# Altium footprint library alexsb.PCBLIB: 444 footprints (part 7 of 28)
Each footprint in its own frame and in the unit in brackets; x right, y up, seen from the top. Pads: shape width x height; smd on the part's side, far side on the other; paste and mask are expansions set on the pad; w line width, h text height; cw(c..) or ccw(c..) is an arc to the next point about the centre after c.
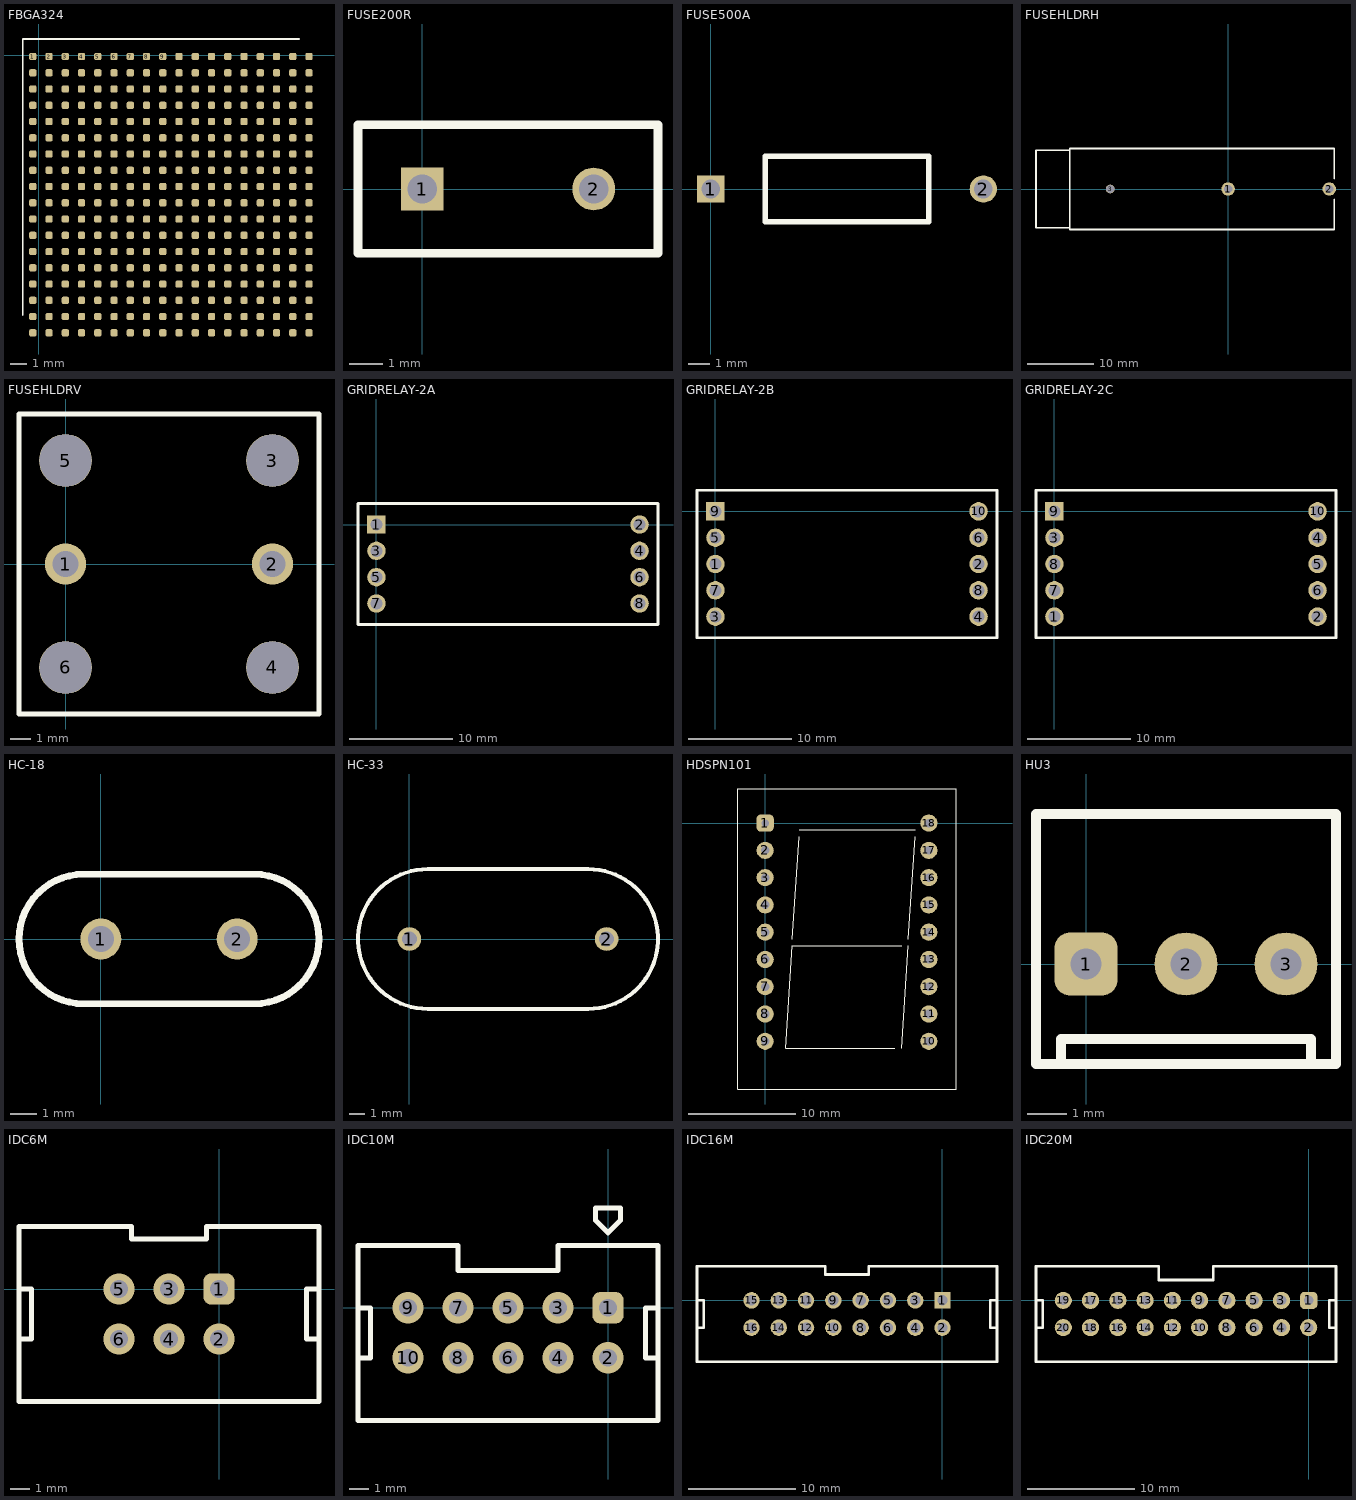
[diagram p6: the footprints below, top view; thin cyan lines are the x and y axes]

## FBGA324 [mm]
pads (324):
  rrect50% 0.45x0.45 smd: 1(-0.38,-0.08) 2(0.62,-0.08) 3(1.62,-0.08) 4(2.62,-0.08) 5(3.62,-0.08) 6(4.62,-0.08) 7(5.62,-0.08) 8(6.62,-0.08) 9(7.62,-0.08) 10(8.62,-0.08) 11(9.62,-0.08) 12(10.62,-0.08) 13(11.62,-0.08) 14(12.62,-0.08) 15(13.62,-0.08) 16(14.62,-0.08) 17(15.62,-0.08) 18(16.62,-0.08) 19(-0.38,-1.08) 20(0.62,-1.08) 21(1.62,-1.08) 22(2.62,-1.08) 23(3.62,-1.08) 24(4.62,-1.08) 25(5.62,-1.08) 26(6.62,-1.08) 27(7.62,-1.08) 28(8.62,-1.08) 29(9.62,-1.08) 30(10.62,-1.08) 31(11.62,-1.08) 32(12.62,-1.08) 33(13.62,-1.08) 34(14.62,-1.08) 35(15.62,-1.08) 36(16.62,-1.08) 37(-0.38,-2.08) 38(0.62,-2.08) 39(1.62,-2.08) 40(2.62,-2.08) 41(3.62,-2.08) 42(4.62,-2.08) 43(5.62,-2.08) 44(6.62,-2.08) 45(7.62,-2.08) 46(8.62,-2.08) 47(9.62,-2.08) 48(10.62,-2.08) 49(11.62,-2.08) 50(12.62,-2.08) 51(13.62,-2.08) 52(14.62,-2.08) 53(15.62,-2.08) 54(16.62,-2.08) 55(-0.38,-3.08) 56(0.62,-3.08) 57(1.62,-3.08) 58(2.62,-3.08) 59(3.62,-3.08) 60(4.62,-3.08) 61(5.62,-3.08) 62(6.62,-3.08) 63(7.62,-3.08) 64(8.62,-3.08) 65(9.62,-3.08) 66(10.62,-3.08) 67(11.62,-3.08) 68(12.62,-3.08) 69(13.62,-3.08) 70(14.62,-3.08) 71(15.62,-3.08) 72(16.62,-3.08) 73(-0.38,-4.08) 74(0.62,-4.08) 75(1.62,-4.08) 76(2.62,-4.08) 77(3.62,-4.08) 78(4.62,-4.08) 79(5.62,-4.08) 80(6.62,-4.08) 81(7.62,-4.08) 82(8.62,-4.08) 83(9.62,-4.08) 84(10.62,-4.08) 85(11.62,-4.08) 86(12.62,-4.08) 87(13.62,-4.08) 88(14.62,-4.08) 89(15.62,-4.08) 90(16.62,-4.08) 91(-0.38,-5.08) 92(0.62,-5.08) 93(1.62,-5.08) 94(2.62,-5.08) 95(3.62,-5.08) 96(4.62,-5.08) 97(5.62,-5.08) 98(6.62,-5.08) 99(7.62,-5.08) 100(8.62,-5.08) 101(9.62,-5.08) 102(10.62,-5.08) 103(11.62,-5.08) 104(12.62,-5.08) 105(13.62,-5.08) 106(14.62,-5.08) 107(15.62,-5.08) 108(16.62,-5.08) 109(-0.38,-6.08) 110(0.62,-6.08) 111(1.62,-6.08) 112(2.62,-6.08) 113(3.62,-6.08) 114(4.62,-6.08) 115(5.62,-6.08) 116(6.62,-6.08) 117(7.62,-6.08) 118(8.62,-6.08) 119(9.62,-6.08) 120(10.62,-6.08) 121(11.62,-6.08) 122(12.62,-6.08) 123(13.62,-6.08) 124(14.62,-6.08) 125(15.62,-6.08) 126(16.62,-6.08) 127(-0.38,-7.08) 128(0.62,-7.08) 129(1.62,-7.08) 130(2.62,-7.08) 131(3.62,-7.08) 132(4.62,-7.08) 133(5.62,-7.08) 134(6.62,-7.08) 135(7.62,-7.08) 136(8.62,-7.08) 137(9.62,-7.08) 138(10.62,-7.08) 139(11.62,-7.08) 140(12.62,-7.08) 141(13.62,-7.08) 142(14.62,-7.08) 143(15.62,-7.08) 144(16.62,-7.08) 145(-0.38,-8.08) 146(0.62,-8.08) 147(1.62,-8.08) 148(2.62,-8.08) 149(3.62,-8.08) 150(4.62,-8.08) 151(5.62,-8.08) 152(6.62,-8.08) 153(7.62,-8.08) 154(8.62,-8.08) 155(9.62,-8.08) 156(10.62,-8.08) 157(11.62,-8.08) 158(12.62,-8.08) 159(13.62,-8.08) 160(14.62,-8.08) 161(15.62,-8.08) 162(16.62,-8.08) 163(-0.38,-9.08) 164(0.62,-9.08) 165(1.62,-9.08) 166(2.62,-9.08) 167(3.62,-9.08) 168(4.62,-9.08) 169(5.62,-9.08) 170(6.62,-9.08) 171(7.62,-9.08) 172(8.62,-9.08) 173(9.62,-9.08) 174(10.62,-9.08) 175(11.62,-9.08) 176(12.62,-9.08) 177(13.62,-9.08) 178(14.62,-9.08) 179(15.62,-9.08) 180(16.62,-9.08) 181(-0.38,-10.08) 182(0.62,-10.08) 183(1.62,-10.08) 184(2.62,-10.08) 185(3.62,-10.08) 186(4.62,-10.08) 187(5.62,-10.08) 188(6.62,-10.08) 189(7.62,-10.08) 190(8.62,-10.08) 191(9.62,-10.08) 192(10.62,-10.08) 193(11.62,-10.08) 194(12.62,-10.08) 195(13.62,-10.08) 196(14.62,-10.08) 197(15.62,-10.08) 198(16.62,-10.08) 199(-0.38,-11.08) 200(0.62,-11.08) 201(1.62,-11.08) 202(2.62,-11.08) 203(3.62,-11.08) 204(4.62,-11.08) 205(5.62,-11.08) 206(6.62,-11.08) 207(7.62,-11.08) 208(8.62,-11.08) 209(9.62,-11.08) 210(10.62,-11.08) 211(11.62,-11.08) 212(12.62,-11.08) 213(13.62,-11.08) 214(14.62,-11.08) 215(15.62,-11.08) 216(16.62,-11.08) 217(-0.38,-12.08) 218(0.62,-12.08) 219(1.62,-12.08) 220(2.62,-12.08) 221(3.62,-12.08) 222(4.62,-12.08) 223(5.62,-12.08) 224(6.62,-12.08) 225(7.62,-12.08) 226(8.62,-12.08) 227(9.62,-12.08) 228(10.62,-12.08) 229(11.62,-12.08) 230(12.62,-12.08) 231(13.62,-12.08) 232(14.62,-12.08) 233(15.62,-12.08) 234(16.62,-12.08) 235(-0.38,-13.08) 236(0.62,-13.08) 237(1.62,-13.08) 238(2.62,-13.08) 239(3.62,-13.08) 240(4.62,-13.08) 241(5.62,-13.08) 242(6.62,-13.08) 243(7.62,-13.08) 244(8.62,-13.08) 245(9.62,-13.08) 246(10.62,-13.08) 247(11.62,-13.08) 248(12.62,-13.08) 249(13.62,-13.08) 250(14.62,-13.08) 251(15.62,-13.08) 252(16.62,-13.08) 253(-0.38,-14.08) 254(0.62,-14.08) 255(1.62,-14.08) 256(2.62,-14.08) 257(3.62,-14.08) 258(4.62,-14.08) 259(5.62,-14.08) 260(6.62,-14.08) 261(7.62,-14.08) 262(8.62,-14.08) 263(9.62,-14.08) 264(10.62,-14.08) 265(11.62,-14.08) 266(12.62,-14.08) 267(13.62,-14.08) 268(14.62,-14.08) 269(15.62,-14.08) 270(16.62,-14.08) 271(-0.38,-15.08) 272(0.62,-15.08) 273(1.62,-15.08) 274(2.62,-15.08) 275(3.62,-15.08) 276(4.62,-15.08) 277(5.62,-15.08) 278(6.62,-15.08) 279(7.62,-15.08) 280(8.62,-15.08) 281(9.62,-15.08) 282(10.62,-15.08) 283(11.62,-15.08) 284(12.62,-15.08) 285(13.62,-15.08) 286(14.62,-15.08) 287(15.62,-15.08) 288(16.62,-15.08) 289(-0.38,-16.08) 290(0.62,-16.08) 291(1.62,-16.08) 292(2.62,-16.08) 293(3.62,-16.08) 294(4.62,-16.08) 295(5.62,-16.08) 296(6.62,-16.08) 297(7.62,-16.08) 298(8.62,-16.08) 299(9.62,-16.08) 300(10.62,-16.08) 301(11.62,-16.08) 302(12.62,-16.08) 303(13.62,-16.08) 304(14.62,-16.08) 305(15.62,-16.08) 306(16.62,-16.08) 307(-0.38,-17.08) 308(0.62,-17.08) 309(1.62,-17.08) 310(2.62,-17.08) 311(3.62,-17.08) 312(4.62,-17.08) 313(5.62,-17.08) 314(6.62,-17.08) 315(7.62,-17.08) 316(8.62,-17.08) 317(9.62,-17.08) 318(10.62,-17.08) 319(11.62,-17.08) 320(12.62,-17.08) 321(13.62,-17.08) 322(14.62,-17.08) 323(15.62,-17.08) 324(16.62,-17.08)
Top Overlay:
  lines w0.1: -1,-16 -1,1 16,1

## FUSE200R [mil]
pads (2):
  rect 50x50 hole 34: 1(0,0)
  round 50 hole 34: 2(200,0)
Top Overlay:
  lines w10: -75,-75 -75,75 275,75 275,-75 -75,-75

## FUSE500A [mil]
pads (2):
  rect 50x50 hole 34: 1(0,0)
  round 50 hole 34: 2(500,0)
Top Overlay:
  lines w10: 100,-60 100,60 400,60 400,-60 100,-60

## FUSEHLDRH [mil]
pads (3):
  round 80 hole 50: 1(0,0) 2(600,0)
  round 52 hole 50: 3(-700,0)
Top Overlay:
  lines w10: 630,-60 630,-240 -940,-240 -940,-230 ; 630,60 630,240 -940,240 -940,230 ; -940,-230 -940,230 ; -940,-230 -1140,-230 -1140,230 -940,230

## FUSEHLDRV [mil]
pads (6):
  round 80 hole 50: 1(0,0) 2(400,0)
  round 102 hole 100: 3(400,200) 4(400,-200) 5(0,200) 6(0,-200)
Top Overlay:
  lines w10: -90,-290 490,-290 490,290 -90,290 -90,-290

## GRIDRELAY-2A [mil]
pads (8):
  rect 70x70 hole 46: 1(0,0)
  round 70 hole 46: 2(1000,0) 3(0,-100) 4(1000,-100) 5(0,-200) 6(1000,-200) 7(0,-300) 8(1000,-300)
Top Overlay:
  lines w10: -70,-380 1070,-380 1070,80 -70,80 -70,-380

## GRIDRELAY-2B [mil]
pads (10):
  round 70 hole 46: 1(0,-200) 2(1000,-200) 3(0,-400) 4(1000,-400) 5(0,-100) 6(1000,-100) 7(0,-300) 8(1000,-300) 10(1000,0)
  rect 70x70 hole 46: 9(0,0)
Top Overlay:
  lines w10: -70,-480 -70,80 1070,80 1070,-480 -70,-480

## GRIDRELAY-2C [mil]
pads (10):
  round 70 hole 46: 1(0,-400) 2(1000,-400) 3(0,-100) 4(1000,-100) 5(1000,-200) 6(1000,-300) 7(0,-300) 8(0,-200) 10(1000,0)
  rect 70x70 hole 46: 9(0,0)
Top Overlay:
  lines w10: -70,-480 1070,-480 1070,80 -70,80 -70,-480

## HC-18 [mil]
pads (2):
  round 60 hole 38: 1(0,0) 2(200,0)
Top Overlay:
  lines w10: -25,-95 cw(c-25,0) -25,95 225,95 cw(c225,0) 225,-95 -25,-95

## HC-33 [mil]
pads (2):
  round 60 hole 38: 1(0,0) 2(500,0)
Top Overlay:
  lines w10: 47,-177 cw(c47,0) 47,177 453,177 cw(c453,0) 453,-177 47,-177

## HDSPN101 [mm]
pads (18):
  rrect50% 1.6x1.6 hole 0.7: 1(0,0)
  round 1.6 hole 0.8: 2(0,-2.54) 3(0,-5.08) 4(0,-7.62) 5(0,-10.16) 6(0,-12.7) 7(0,-15.24) 8(0,-17.78) 9(0,-20.32) 10(15.24,-20.32) 11(15.24,-17.78) 12(15.24,-15.24) 13(15.24,-12.7) 14(15.24,-10.16) 15(15.24,-7.62) 16(15.24,-5.08) 17(15.24,-2.54) 18(15.24,0)
Top Overlay:
  lines w0: 2.54,-10.795 3.175,-1.27 ; 3.175,-0.635 13.97,-0.635 ; 12.065,-20.955 1.905,-20.955 2.54,-11.43 12.7,-11.43 ; 12.7,-20.955 13.335,-11.43 ; 13.335,-10.795 13.97,-1.27
  lines w0.1: -2.54,-24.765 17.78,-24.765 17.78,3.175 -2.54,3.175 -2.54,-24.765

## HU3 [mm]
pads (3):
  rrect50% 1.6x1.6 hole 0.8: 1(0,0)
  round 1.6 hole 0.8: 2(2.54,0) 3(5.08,0)
Top Overlay:
  lines w0.254: -0.635,-2.54 -0.635,-1.905 5.715,-1.905 5.715,-2.54 ; -1.27,-2.54 6.35,-2.54 6.35,3.81 -1.27,3.81 -1.27,-2.54

## IDC6M [mm]
pads (6):
  rrect50% 1.6x1.6 hole 0.9: 1(0,0)
  round 1.6 hole 0.9: 2(0,-2.54) 3(-2.54,0) 4(-2.54,-2.54) 5(-5.08,0) 6(-5.08,-2.54)
Top Overlay:
  lines w0.254: -10.16,-2.54 -9.525,-2.54 -9.525,0 -10.16,0 ; 5.08,-2.54 4.445,-2.54 4.445,0 5.08,0 ; -10.16,-5.715 5.08,-5.715 5.08,3.175 -0.635,3.175 -0.635,2.54 -4.445,2.54 -4.445,3.175 -10.16,3.175 -10.16,-5.715

## IDC10M [mm]
height 9
pads (10):
  rrect50% 1.6x1.6 hole 0.9: 1(0,0)
  round 1.6 hole 0.9: 2(0,-2.54) 3(-2.54,0) 4(-2.54,-2.54) 5(-5.08,0) 6(-5.08,-2.54) 7(-7.62,0) 8(-7.62,-2.54) 9(-10.16,0) 10(-10.16,-2.54)
Top Overlay:
  lines w0.254: -12.7,-2.54 -12.065,-2.54 -12.065,0 -12.7,0 ; 2.54,-2.54 1.905,-2.54 1.905,0 2.54,0 ; -12.7,-5.715 2.54,-5.715 2.54,3.175 -2.54,3.175 -2.54,1.905 -7.62,1.905 -7.62,3.175 -12.7,3.175 -12.7,-5.715 ; -0.635,4.445 -0.635,5.08 0.635,5.08 0.635,4.445 0,3.81 -0.635,4.445

## IDC16M [mil]
pads (16):
  rect 60x60 hole 38: 1(0,0)
  round 60 hole 38: 2(0,-100) 3(-100,0) 4(-100,-100) 5(-200,0) 6(-200,-100) 7(-300,0) 8(-300,-100) 9(-400,0) 10(-400,-100) 11(-500,0) 12(-500,-100) 13(-600,0) 14(-600,-100) 15(-700,0) 16(-700,-100)
Top Overlay:
  lines w10: -900,-100 -875,-100 -875,0 -900,0 ; 200,-100 175,-100 175,0 200,0 ; -900,-225 -900,125 -430,125 -430,95 -270,95 -270,125 200,125 200,-225 -900,-225

## IDC20M [mm]
height 9
pads (20):
  rrect50% 1.6x1.6 hole 0.9: 1(0,0)
  round 1.6 hole 0.9: 2(0,-2.54) 3(-2.54,0) 4(-2.54,-2.54) 5(-5.08,0) 6(-5.08,-2.54) 7(-7.62,0) 8(-7.62,-2.54) 9(-10.16,0) 10(-10.16,-2.54) 11(-12.7,0) 12(-12.7,-2.54) 13(-15.24,0) 14(-15.24,-2.54) 15(-17.78,0) 16(-17.78,-2.54) 17(-20.32,0) 18(-20.32,-2.54) 19(-22.86,0) 20(-22.86,-2.54)
Top Layer:
  text "1" at -0.635,3.81 h3
Top Overlay:
  lines w0.254: -25.4,-2.54 -24.765,-2.54 -24.765,0 -25.4,0 ; -5.715,3.175 -8.89,3.175 -8.89,1.905 -13.97,1.905 -13.97,3.175 -17.272,3.175 -25.4,3.175 -25.4,-5.715 2.54,-5.715 2.54,3.175 -5.588,3.175 ; 2.54,-2.54 1.905,-2.54 1.905,0 2.54,0